# EAGLE library part MAX4760 (library cyberhedz)
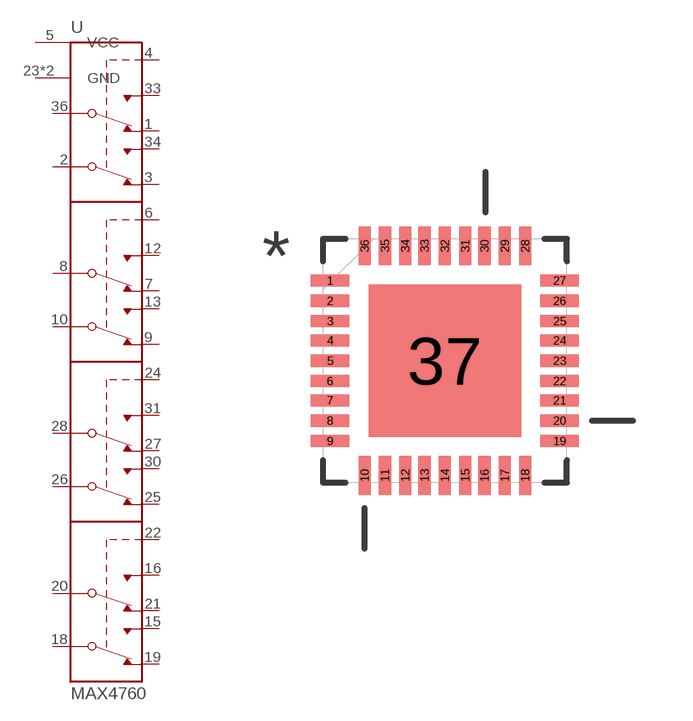
[diagram p3: symbol with the pads of QFN50P600X600X80-37N; footprint QFN50P600X600X80-37N]

Designator prefix -

## MAX4760TQFN36  [QFN50P600X600X80-37N]
1  NC1
2  COM2
3  NC2
4  INA  in
5  VCC
6  INB  in
7  NC3
8  COM3
9  NC4
10  COM4
12  NO3
13  NO4
15  NO8
16  NO7
18  COM8
19  NC8
20  COM7
21  NC7
22  IND  in
23  GND
24  INC  in
25  NC6
26  COM6
27  NC5
28  COM5
30  NO6
31  NO5
33  NO1
34  NO2
36  COM1
37  GND

## Footprint QFN50P600X600X80-37N (pad centres in mm)
smd 0.965 x 0.305: 1 -2.87,2.007; 2 -2.87,1.499; 3 -2.87,0.991; 4 -2.87,0.508; 5 -2.87,0; 6 -2.87,-0.508; 7 -2.87,-0.991; 8 -2.87,-1.499; 9 -2.87,-2.007; 19 2.87,-2.007; 20 2.87,-1.499; 21 2.87,-0.991; 22 2.87,-0.508; 23 2.87,0; 24 2.87,0.508; 25 2.87,0.991; 26 2.87,1.499; 27 2.87,2.007
smd 0.305 x 0.965: 10 -2.007,-2.87; 11 -1.499,-2.87; 12 -0.991,-2.87; 13 -0.508,-2.87; 14 0,-2.87; 15 0.508,-2.87; 16 0.991,-2.87; 17 1.499,-2.87; 18 2.007,-2.87; 28 2.007,2.87; 29 1.499,2.87; 30 0.991,2.87; 31 0.508,2.87; 32 0,2.87; 33 -0.508,2.87; 34 -0.991,2.87; 35 -1.499,2.87; 36 -2.007,2.87
smd 3.81 x 3.81: 37 0,0